# Altium schematic symbol library PNP_NPN_Dual.Schlib: 1 symbol
Pins are listed as number, name and electrical type; pins without a type are passive.

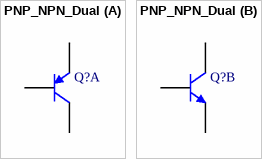
[diagram p0: symbol PNP_NPN_Dual]

## PNP_NPN_Dual
designator Q?
part A pins: 3 C, 4 E, 5 B
part B pins: 1 E, 2 B, 6 C